# EAGLE library part DRV8800 (library Zoli2_2015-02-22)
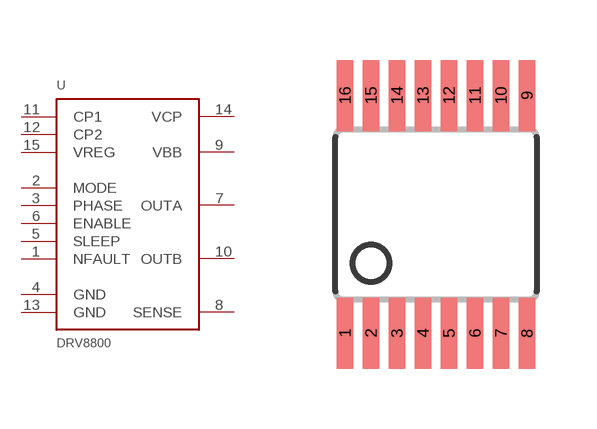
[diagram p56: symbol with the pads of TSSOP16L; footprint TSSOP16L]

Designator prefix -

## DRV8800P  [TSSOP16L]
1  NFAULT  oc
2  MODE  in
3  PHASE  in
4  GND  pwr
5  SLEEP  in
6  ENABLE  in
7  OUTA  out
8  SENSE  pwr
9  VBB  pwr
10  OUTB  out
11  CP1  pas
12  CP2  pas
13  GND  pwr
14  VCP  pas
15  VREG  pas

## Footprint TSSOP16L (pad centres in mm)
MOLDED TSSOP JEDEC, 5 x 4.4 x 9.9 mm Body 16 LD, 0.65mm Pitch Source: http://www.national.com/packaging/mkt/mtc16.pdf
smd 0.42 x 1.78: 1 -2.275,-2.97; 2 -1.625,-2.97; 3 -0.975,-2.97; 4 -0.325,-2.97; 5 0.325,-2.97; 6 0.975,-2.97; 7 1.625,-2.97; 8 2.275,-2.97; 9 2.275,2.97; 10 1.625,2.97; 11 0.975,2.97; 12 0.325,2.97; 13 -0.325,2.97; 14 -0.975,2.97; 15 -1.625,2.97; 16 -2.275,2.97